# Altium schematic symbol library BJT_ROHM_US6X8TR_1A_NPN.SchLib: 1 symbol
Pins are listed as number, name and electrical type; pins without a type are passive.

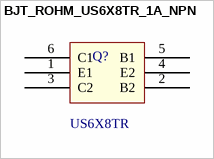
[diagram p0: symbol BJT_ROHM_US6X8TR_1A_NPN]

## BJT_ROHM_US6X8TR_1A_NPN
designator Q?  Series: US6X8TR  (hidden comment: BJT_ROHM_US6X8TR_1A_NPN)
Bipolar Transistors - BJT NPN+NPN 30VCEO 1A SOT-363T; Manufacturer 1: ROHM; Supplier Part Number 1: 755-US6X8TR; Supplier 1: Mouser; Manufacturer Part Number 1: US6X8TR
footprint BJT_ROHM_US6X8TR_1A_NPN (Bipolar Transistors - BJT NPN+NPN 30VCEO 1A SOT-363T)
pins: 1 E1, 2 B2, 3 C2, 4 E2, 5 B1, 6 C1